# Altium integrated library MIC94310-PYMT-TR.IntLib: 1 symbol
Pins are listed as number, name and electrical type; pins without a type are passive.

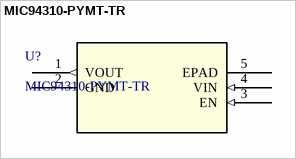
[diagram p0: symbol MIC94310-PYMT-TR]

## MIC94310-PYMT-TR
designator U?
No Description Available; Vendor: Microchip; Built_By: EMA_Jessica; SourceLibrary: Microchip_2019-08-23_18; Manufacturer_Part_Number: MIC94310-PYMT-TR; Copyright: Copyright (C) 2018 Accelerated Designs. All rights reserved; RefDes: RefDes; Type: DEV
footprint TDFN4_1P2X1P6_MCH
pins: 1 VOUT (out), 2 GND (power), 3 EN (in), 4 VIN (in), 5 EPAD